# Altium footprint library 705530001.PcbLib: 1 footprints
Each footprint in its own frame and in the unit in brackets; x right, y up, seen from the top. Pads: shape width x height; smd on the part's side, far side on the other; paste and mask are expansions set on the pad; w line width, h text height; cw(c..) or ccw(c..) is an arc to the next point about the centre after c.
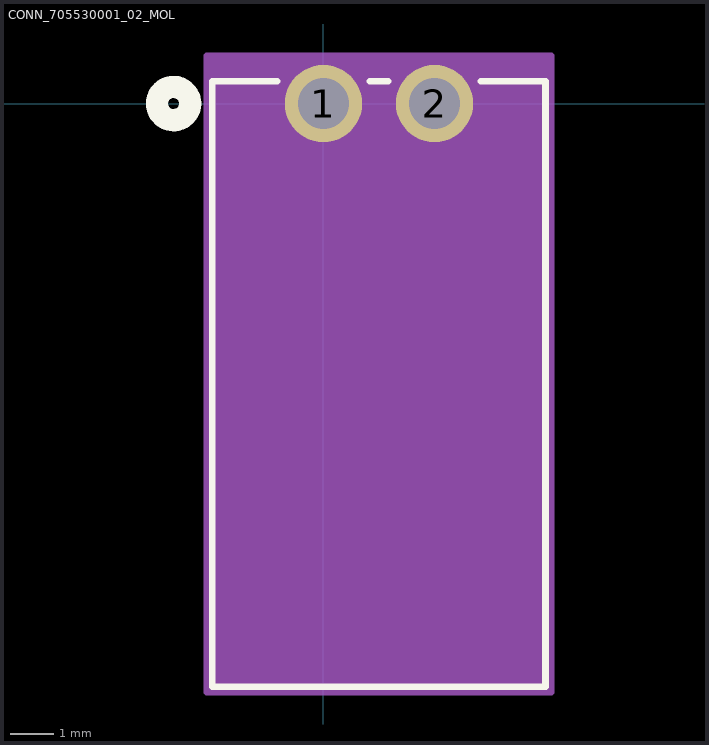
[diagram p0: the footprint, top view; thin cyan lines are the x and y axes]

## CONN_705530001_02_MOL [mil]
pads (2):
  round 69.61 / inner round 60 / far side round 69.61 hole 46 paste-99999 mask+0: 1(0,0) 2(100,0)
Top Overlay:
  circle w20: c-135,0 r15
  lines w6: -41.55,19.96 -100,19.96 -100,-525.04 200,-525.04 200,19.96 141.55,19.96 ; 41.55,19.96 58.45,19.96
Bottom Overlay:
  circle w20: c-135,0 r15
Mechanical 13:
  circle w20: c0,0 r15
  lines w1: -95,-520.04 195,-520.04 195,14.96 -95,14.96 -95,-520.04
Mechanical 15:
  region: 205,43 -105,43 -105,-530.04 205,-530.04
  lines w6: -105,-530.04 -105,43 205,43 205,-530.04 -105,-530.04
3D body "0705530001.stp": height 272, standoff -133, extent -95,-520 195,15